# EAGLE library part ICE40LP384-SG32 (library FPGA)
LP Series 384 LUTs 63 I/O 1.2 V Surface Mount FPGA - QFN-32EP
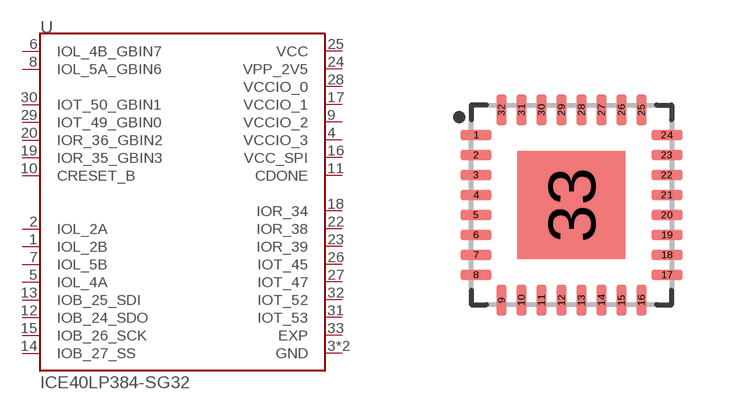
[diagram p0: symbol with the pads of QFN33P50_500X500X100L40X24T270N; footprint QFN33P50_500X500X100L40X24T270N]

Designator prefix U

## ICE40LP384-SG32 (DESCRIPTION: LP Series 384 LUTs 63 I/O 1.2 V Surface Mount FPGA - QFN-32EP; DIGI-KEY_PART_NUMBER: 220-2646-ND; DIGI-KEY_PURCHASE_URL: https://www.digikey.com/product-detail/en/lattice-semiconductor-corporation/ICE40LP384-SG32/220-2646-ND/3974680?utm_source=snapeda&utm_medium=aggregator&utm_campaign=symbol; MF: Lattice Semiconductor; MP: ICE40LP384-SG32; PACKAGE: QFN-32 Lattice Semiconductor)  [QFN33P50_500X500X100L40X24T270N]
1  IOL_2B
2  IOL_2A
3  GND  pwr
4  VCCIO_3  pwr
5  IOL_4A
6  IOL_4B_GBIN7  in
7  IOL_5B
8  IOL_5A_GBIN6  in
9  VCCIO_2  pwr
10  CRESET_B  in
11  CDONE
12  IOB_24_SDO
13  IOB_25_SDI
14  IOB_27_SS
15  IOB_26_SCK
16  VCC_SPI  pwr
17  VCCIO_1  pwr
18  IOR_34
19  IOR_35_GBIN3  in
20  IOR_36_GBIN2  in
21  GND  pwr
22  IOR_38
23  IOR_39
24  VPP_2V5  pwr
25  VCC  pwr
26  IOT_45
27  IOT_47
28  VCCIO_0  pwr
29  IOT_49_GBIN0  in
30  IOT_50_GBIN1  in
31  IOT_53
32  IOT_52
33  EXP  pwr

## Footprint QFN33P50_500X500X100L40X24T270N (pad centres in mm)
smd 0.78 x 0.26: 1 -2.385,1.75; 2 -2.385,1.25; 3 -2.385,0.75; 4 -2.385,0.25; 5 -2.385,-0.25; 6 -2.385,-0.75; 7 -2.385,-1.25; 8 -2.385,-1.75; 17 2.385,-1.75; 18 2.385,-1.25; 19 2.385,-0.75; 20 2.385,-0.25; 21 2.385,0.25; 22 2.385,0.75; 23 2.385,1.25; 24 2.385,1.75
smd 0.26 x 0.78: 9 -1.75,-2.385; 10 -1.25,-2.385; 11 -0.75,-2.385; 12 -0.25,-2.385; 13 0.25,-2.385; 14 0.75,-2.385; 15 1.25,-2.385; 16 1.75,-2.385; 25 1.75,2.385; 26 1.25,2.385; 27 0.75,2.385; 28 0.25,2.385; 29 -0.25,2.385; 30 -0.75,2.385; 31 -1.25,2.385; 32 -1.75,2.385
smd 2.7 x 2.7: 33 0,0